# Altium footprint library PL02_22F.PcbLib: 34 footprints (part 3 of 3)
Each footprint in its own frame and in the unit in brackets; x right, y up, seen from the top. Pads: shape width x height; smd on the part's side, far side on the other; paste and mask are expansions set on the pad; w line width, h text height; cw(c..) or ccw(c..) is an arc to the next point about the centre after c.
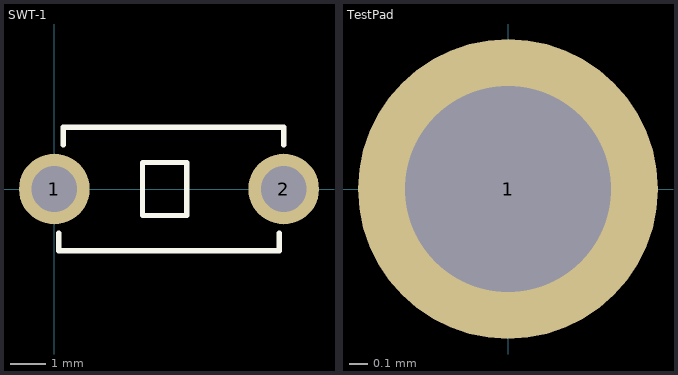
[diagram p2: the footprints below, top view; thin cyan lines are the x and y axes]

## SWT-1 [mm]
height 9.2
pads (2):
  round 2 hole 1.3: 1(0,0) 2(6.5,0)
Top Overlay:
  lines w0.15: 0.125,-1.25 0.125,-1.75 6.375,-1.75 6.375,-1.25 ; 0.25,1.25 0.25,1.75 6.5,1.75 6.5,1.25 ; 2.5,-0.75 3.75,-0.75 3.75,0.75 2.5,0.75 2.5,-0.75

## TestPad [mm] "pad"
pads (1):
  round 1.6 hole 1.1: 1(0,0)